# EAGLE library part LNK403-410/413-420 (library power_integrations)
The LinkSwitch-PH dramatically simplifi es implementation of LED drivers requiring long lifetime, high effi ciency, PF >0.9, and TRIAC dimming capability (LNK403-410). The single-stage combined power factor and constant-current controller eliminates a switching stage and the electrolytic bulk capacitor. The advanced primaryside control used by the LinkSwitch-PH device provides accurate constant current control while eliminating the need for an optocoupler and current sensing circuits. LinkSwitch-PH incorporates a 725 V power FET, a continuousmode PWM controller, a high-voltage switched current source for self biasing, frequency jittering, protection circuitry including cycle-by-cycle current limit and hysteretic thermal shutdown.
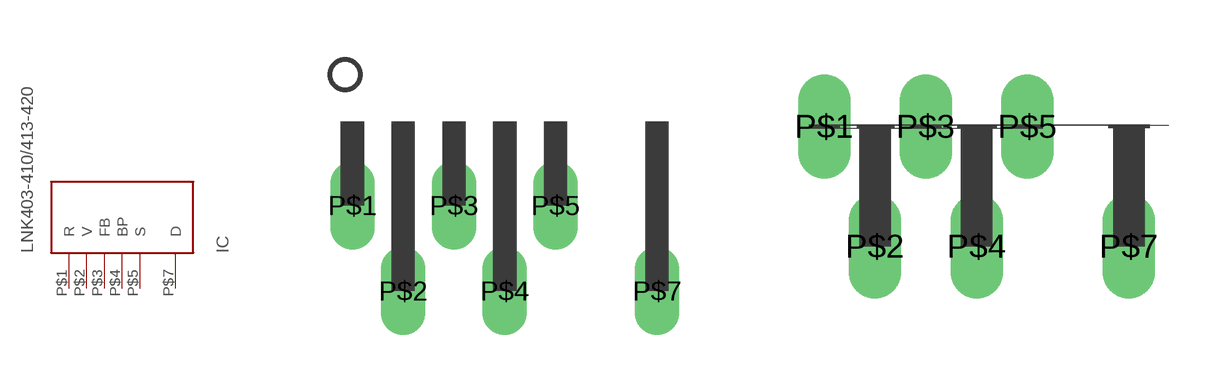
[diagram p13: symbol with the pads of SIP-E-7F(L_PACKAGE); footprints SIP-E-7F(L_PACKAGE), SIP-E-7C(E_PACKAGE)]

Designator prefix IC

## LNK403-410/413-420  [SIP-E-7F(L_PACKAGE)]
P$1  R
P$2  V
P$3  FB
P$4  BP
P$5  S
P$7  D

## LNK403-410/413-420SIP-E-7C(E_PACKAGE)  [SIP-E-7C(E_PACKAGE)]
Pads as for SIP-E-7F(L_PACKAGE)

## Footprint SIP-E-7F(L_PACKAGE) (pad centres in mm)
drill 0.6 long: P$1 -3.81,-2.1; P$2 -2.54,-4.24; P$3 -1.27,-2.1; P$4 0,-4.24; P$5 1.27,-2.1; P$7 3.81,-4.24

## Footprint SIP-E-7C(E_PACKAGE) (pad centres in mm)
drill 0.8 long: P$1 -3.81,1.5; P$2 -2.54,-1.5; P$3 -1.27,1.5; P$4 0,-1.5; P$5 1.27,1.5; P$7 3.81,-1.5